# Altium schematic symbol library LM397MFXNOPB.SchLib: 1 symbol
Pins are listed as number, name and electrical type; pins without a type are passive.

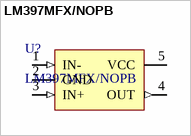
[diagram p0: symbol LM397MFX/NOPB]

## LM397MFX/NOPB
designator U?
Analog Comparators SGL Gen Purp Vtg Cmptr; Manufacturer: Texas Instruments; Max Supply Voltage: 30V; PN: LM397MFX/NOPB; Footprint: SOT-23-5; Package: SOT-23-5; ComponentLink1Description: Datasheet; ComponentLink1URL: https://www.ti.com/lit/ds/symlink/lm397.pdf?HQS=dis-mous-null-mousermode-dsf-pf-null-wwe&ts=1624218082071&ref_url=https%253A%252F%252Fwww.mouser.ca%252F; Supplier 1: Mouser; Supplier Part Number 1: 926-LM397MFX/NOPB
footprint SOT-23-5
pins: 1 IN- (in), 2 GND (power), 3 IN+ (in), 4 OUT (out), 5 VCC (power)